# Altium footprint library Analog Devices Data Converters Digital-to-Analog Converters.PcbLib: 229 footprints (part 15 of 15)
Each footprint in its own frame and in the unit in brackets; x right, y up, seen from the top. Pads: shape width x height; smd on the part's side, far side on the other; paste and mask are expansions set on the pad; w line width, h text height; cw(c..) or ccw(c..) is an arc to the next point about the centre after c.
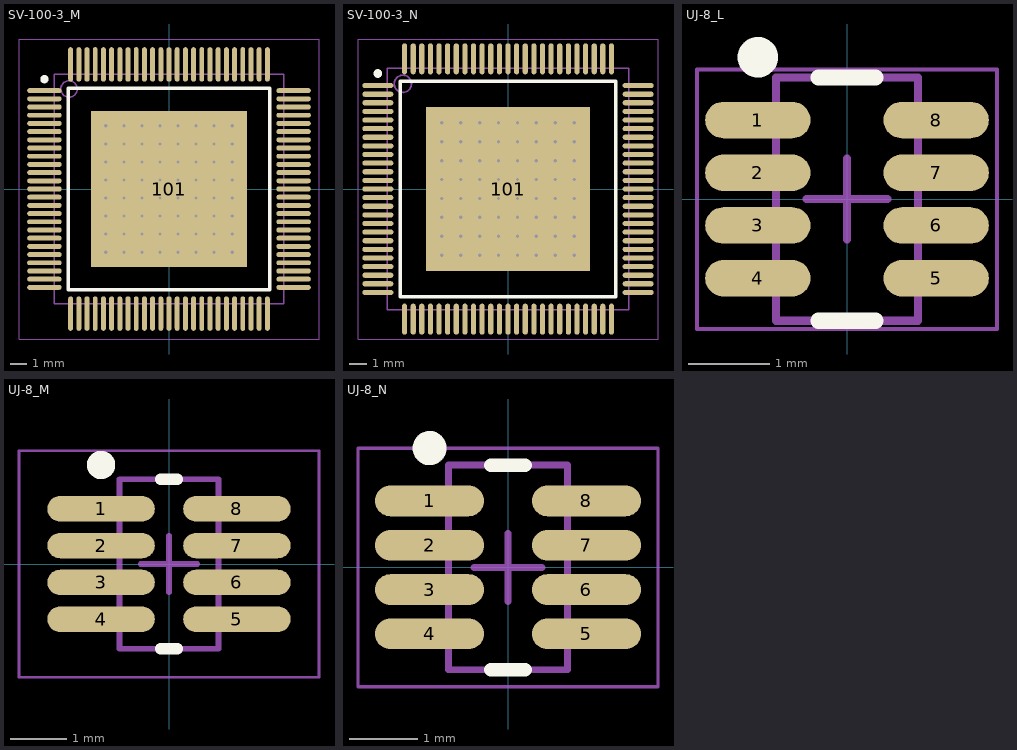
[diagram p14: the footprints below, top view; thin cyan lines are the x and y axes]

## SV-100-3_M [mm] "QFP, 100-Leads, Body 14x14mm, Pitch 0.5mm, Thermal Pad 9.5x9.5mm, IPC Low Density"
height 1.2
pads (101):
  oval 2.1x0.3 smd: 1(-7.6,6) 2(-7.6,5.5) 3(-7.6,5) 4(-7.6,4.5) 5(-7.6,4) 6(-7.6,3.5) 7(-7.6,3) 8(-7.6,2.5) 9(-7.6,2) 10(-7.6,1.5) 11(-7.6,1) 12(-7.6,0.5) 13(-7.6,0) 14(-7.6,-0.5) 15(-7.6,-1) 16(-7.6,-1.5) 17(-7.6,-2) 18(-7.6,-2.5) 19(-7.6,-3) 20(-7.6,-3.5) 21(-7.6,-4) 22(-7.6,-4.5) 23(-7.6,-5) 24(-7.6,-5.5) 25(-7.6,-6) 51(7.6,-6) 52(7.6,-5.5) 53(7.6,-5) 54(7.6,-4.5) 55(7.6,-4) 56(7.6,-3.5) 57(7.6,-3) 58(7.6,-2.5) 59(7.6,-2) 60(7.6,-1.5) 61(7.6,-1) 62(7.6,-0.5) 63(7.6,0) 64(7.6,0.5) 65(7.6,1) 66(7.6,1.5) 67(7.6,2) 68(7.6,2.5) 69(7.6,3) 70(7.6,3.5) 71(7.6,4) 72(7.6,4.5) 73(7.6,5) 74(7.6,5.5) 75(7.6,6)
  oval 0.3x2.1 smd: 26(-6,-7.6) 27(-5.5,-7.6) 28(-5,-7.6) 29(-4.5,-7.6) 30(-4,-7.6) 31(-3.5,-7.6) 32(-3,-7.6) 33(-2.5,-7.6) 34(-2,-7.6) 35(-1.5,-7.6) 36(-1,-7.6) 37(-0.5,-7.6) 38(0,-7.6) 39(0.5,-7.6) 40(1,-7.6) 41(1.5,-7.6) 42(2,-7.6) 43(2.5,-7.6) 44(3,-7.6) 45(3.5,-7.6) 46(4,-7.6) 47(4.5,-7.6) 48(5,-7.6) 49(5.5,-7.6) 50(6,-7.6) 76(6,7.6) 77(5.5,7.6) 78(5,7.6) 79(4.5,7.6) 80(4,7.6) 81(3.5,7.6) 82(3,7.6) 83(2.5,7.6) 84(2,7.6) 85(1.5,7.6) 86(1,7.6) 87(0.5,7.6) 88(0,7.6) 89(-0.5,7.6) 90(-1,7.6) 91(-1.5,7.6) 92(-2,7.6) 93(-2.5,7.6) 94(-3,7.6) 95(-3.5,7.6) 96(-4,7.6) 97(-4.5,7.6) 98(-5,7.6) 99(-5.5,7.6) 100(-6,7.6)
  rect 9.5x9.5 smd: 101(0,0)
via 0.55,0.55 diameter 0.5 hole 0.2
via 0.55,-0.55 diameter 0.5 hole 0.2
via 0.55,1.65 diameter 0.5 hole 0.2
via 0.55,2.75 diameter 0.5 hole 0.2
via 0.55,3.85 diameter 0.5 hole 0.2
via 0.55,-1.65 diameter 0.5 hole 0.2
via 0.55,-2.75 diameter 0.5 hole 0.2
via 0.55,-3.85 diameter 0.5 hole 0.2
via 1.65,-3.85 diameter 0.5 hole 0.2
via 1.65,-2.75 diameter 0.5 hole 0.2
via 1.65,-1.65 diameter 0.5 hole 0.2
via 1.65,-0.55 diameter 0.5 hole 0.2
via 1.65,0.55 diameter 0.5 hole 0.2
via 1.65,1.65 diameter 0.5 hole 0.2
via 1.65,2.75 diameter 0.5 hole 0.2
via 1.65,3.85 diameter 0.5 hole 0.2
via 2.75,3.85 diameter 0.5 hole 0.2
via 2.75,2.75 diameter 0.5 hole 0.2
via 2.75,1.65 diameter 0.5 hole 0.2
via 2.75,0.55 diameter 0.5 hole 0.2
via 2.75,-0.55 diameter 0.5 hole 0.2
via 2.75,-1.65 diameter 0.5 hole 0.2
via 2.75,-2.75 diameter 0.5 hole 0.2
via 2.75,-3.85 diameter 0.5 hole 0.2
via 3.85,-3.85 diameter 0.5 hole 0.2
via 3.85,-2.75 diameter 0.5 hole 0.2
via 3.85,-1.65 diameter 0.5 hole 0.2
via 3.85,-0.55 diameter 0.5 hole 0.2
via 3.85,0.55 diameter 0.5 hole 0.2
via 3.85,1.65 diameter 0.5 hole 0.2
via 3.85,2.75 diameter 0.5 hole 0.2
via 3.85,3.85 diameter 0.5 hole 0.2
via -0.55,3.85 diameter 0.5 hole 0.2
via -0.55,2.75 diameter 0.5 hole 0.2
via -0.55,1.65 diameter 0.5 hole 0.2
via -0.55,0.55 diameter 0.5 hole 0.2
via -0.55,-0.55 diameter 0.5 hole 0.2
via -0.55,-1.65 diameter 0.5 hole 0.2
via -0.55,-2.75 diameter 0.5 hole 0.2
via -0.55,-3.85 diameter 0.5 hole 0.2
via -1.65,-3.85 diameter 0.5 hole 0.2
via -1.65,-2.75 diameter 0.5 hole 0.2
via -1.65,-1.65 diameter 0.5 hole 0.2
via -1.65,-0.55 diameter 0.5 hole 0.2
via -1.65,0.55 diameter 0.5 hole 0.2
via -1.65,1.65 diameter 0.5 hole 0.2
via -1.65,2.75 diameter 0.5 hole 0.2
via -1.65,3.85 diameter 0.5 hole 0.2
via -2.75,3.85 diameter 0.5 hole 0.2
via -2.75,2.75 diameter 0.5 hole 0.2
via -2.75,1.65 diameter 0.5 hole 0.2
via -2.75,0.55 diameter 0.5 hole 0.2
via -2.75,-0.55 diameter 0.5 hole 0.2
via -2.75,-1.65 diameter 0.5 hole 0.2
via -2.75,-2.75 diameter 0.5 hole 0.2
via -2.75,-3.85 diameter 0.5 hole 0.2
via -3.85,-3.85 diameter 0.5 hole 0.2
via -3.85,-2.75 diameter 0.5 hole 0.2
via -3.85,-1.65 diameter 0.5 hole 0.2
via -3.85,3.85 diameter 0.5 hole 0.2
via -3.85,2.75 diameter 0.5 hole 0.2
via -3.85,1.65 diameter 0.5 hole 0.2
via -3.85,-0.55 diameter 0.5 hole 0.2
via -3.85,0.55 diameter 0.5 hole 0.2
Top Overlay:
  circle w0.25: c-7.6,6.7 r0.125
  lines w0.2: -6.15,-6.15 -6.15,6.15 6.15,6.15 6.15,-6.15 -6.15,-6.15
Mechanical 13:
  circle w0.1: c-6.1,6.1 r0.5
  lines w0.1: -7,-7 -7,7 7,7 7,-7 -7,-7
Mechanical 15:
  lines w0.05: -9.15,-9.15 -9.15,9.15 9.15,9.15 9.15,-9.15 -9.15,-9.15
  lines w0.1: -0.5,0 0.5,0 ; 0,-0.5 0,0.5
3D body: height 1.2, standoff 0.05, extent -7,-7 7,7

## SV-100-3_N [mm] "QFP, 100-Leads, Body 14x14mm, Pitch 0.5mm, Thermal Pad 9.5x9.5mm, IPC Medium Density"
height 1.2
pads (101):
  oval 1.8x0.3 smd: 1(-7.55,6) 2(-7.55,5.5) 3(-7.55,5) 4(-7.55,4.5) 5(-7.55,4) 6(-7.55,3.5) 7(-7.55,3) 8(-7.55,2.5) 9(-7.55,2) 10(-7.55,1.5) 11(-7.55,1) 12(-7.55,0.5) 13(-7.55,0) 14(-7.55,-0.5) 15(-7.55,-1) 16(-7.55,-1.5) 17(-7.55,-2) 18(-7.55,-2.5) 19(-7.55,-3) 20(-7.55,-3.5) 21(-7.55,-4) 22(-7.55,-4.5) 23(-7.55,-5) 24(-7.55,-5.5) 25(-7.55,-6) 51(7.55,-6) 52(7.55,-5.5) 53(7.55,-5) 54(7.55,-4.5) 55(7.55,-4) 56(7.55,-3.5) 57(7.55,-3) 58(7.55,-2.5) 59(7.55,-2) 60(7.55,-1.5) 61(7.55,-1) 62(7.55,-0.5) 63(7.55,0) 64(7.55,0.5) 65(7.55,1) 66(7.55,1.5) 67(7.55,2) 68(7.55,2.5) 69(7.55,3) 70(7.55,3.5) 71(7.55,4) 72(7.55,4.5) 73(7.55,5) 74(7.55,5.5) 75(7.55,6)
  oval 0.3x1.8 smd: 26(-6,-7.55) 27(-5.5,-7.55) 28(-5,-7.55) 29(-4.5,-7.55) 30(-4,-7.55) 31(-3.5,-7.55) 32(-3,-7.55) 33(-2.5,-7.55) 34(-2,-7.55) 35(-1.5,-7.55) 36(-1,-7.55) 37(-0.5,-7.55) 38(0,-7.55) 39(0.5,-7.55) 40(1,-7.55) 41(1.5,-7.55) 42(2,-7.55) 43(2.5,-7.55) 44(3,-7.55) 45(3.5,-7.55) 46(4,-7.55) 47(4.5,-7.55) 48(5,-7.55) 49(5.5,-7.55) 50(6,-7.55) 76(6,7.55) 77(5.5,7.55) 78(5,7.55) 79(4.5,7.55) 80(4,7.55) 81(3.5,7.55) 82(3,7.55) 83(2.5,7.55) 84(2,7.55) 85(1.5,7.55) 86(1,7.55) 87(0.5,7.55) 88(0,7.55) 89(-0.5,7.55) 90(-1,7.55) 91(-1.5,7.55) 92(-2,7.55) 93(-2.5,7.55) 94(-3,7.55) 95(-3.5,7.55) 96(-4,7.55) 97(-4.5,7.55) 98(-5,7.55) 99(-5.5,7.55) 100(-6,7.55)
  rect 9.5x9.5 smd: 101(0,0)
via 0.55,0.55 diameter 0.5 hole 0.2
via 0.55,-0.55 diameter 0.5 hole 0.2
via 0.55,1.65 diameter 0.5 hole 0.2
via 0.55,2.75 diameter 0.5 hole 0.2
via 0.55,3.85 diameter 0.5 hole 0.2
via 0.55,-1.65 diameter 0.5 hole 0.2
via 0.55,-2.75 diameter 0.5 hole 0.2
via 0.55,-3.85 diameter 0.5 hole 0.2
via 1.65,-3.85 diameter 0.5 hole 0.2
via 1.65,-2.75 diameter 0.5 hole 0.2
via 1.65,-1.65 diameter 0.5 hole 0.2
via 1.65,-0.55 diameter 0.5 hole 0.2
via 1.65,0.55 diameter 0.5 hole 0.2
via 1.65,1.65 diameter 0.5 hole 0.2
via 1.65,2.75 diameter 0.5 hole 0.2
via 1.65,3.85 diameter 0.5 hole 0.2
via 2.75,3.85 diameter 0.5 hole 0.2
via 2.75,2.75 diameter 0.5 hole 0.2
via 2.75,1.65 diameter 0.5 hole 0.2
via 2.75,0.55 diameter 0.5 hole 0.2
via 2.75,-0.55 diameter 0.5 hole 0.2
via 2.75,-1.65 diameter 0.5 hole 0.2
via 2.75,-2.75 diameter 0.5 hole 0.2
via 2.75,-3.85 diameter 0.5 hole 0.2
via 3.85,-3.85 diameter 0.5 hole 0.2
via 3.85,-2.75 diameter 0.5 hole 0.2
via 3.85,-1.65 diameter 0.5 hole 0.2
via 3.85,-0.55 diameter 0.5 hole 0.2
via 3.85,0.55 diameter 0.5 hole 0.2
via 3.85,1.65 diameter 0.5 hole 0.2
via 3.85,2.75 diameter 0.5 hole 0.2
via 3.85,3.85 diameter 0.5 hole 0.2
via -0.55,3.85 diameter 0.5 hole 0.2
via -0.55,2.75 diameter 0.5 hole 0.2
via -0.55,1.65 diameter 0.5 hole 0.2
via -0.55,0.55 diameter 0.5 hole 0.2
via -0.55,-0.55 diameter 0.5 hole 0.2
via -0.55,-1.65 diameter 0.5 hole 0.2
via -0.55,-2.75 diameter 0.5 hole 0.2
via -0.55,-3.85 diameter 0.5 hole 0.2
via -1.65,-3.85 diameter 0.5 hole 0.2
via -1.65,-2.75 diameter 0.5 hole 0.2
via -1.65,-1.65 diameter 0.5 hole 0.2
via -1.65,-0.55 diameter 0.5 hole 0.2
via -1.65,0.55 diameter 0.5 hole 0.2
via -1.65,1.65 diameter 0.5 hole 0.2
via -1.65,2.75 diameter 0.5 hole 0.2
via -1.65,3.85 diameter 0.5 hole 0.2
via -2.75,3.85 diameter 0.5 hole 0.2
via -2.75,2.75 diameter 0.5 hole 0.2
via -2.75,1.65 diameter 0.5 hole 0.2
via -2.75,0.55 diameter 0.5 hole 0.2
via -2.75,-0.55 diameter 0.5 hole 0.2
via -2.75,-1.65 diameter 0.5 hole 0.2
via -2.75,-2.75 diameter 0.5 hole 0.2
via -2.75,-3.85 diameter 0.5 hole 0.2
via -3.85,-3.85 diameter 0.5 hole 0.2
via -3.85,-2.75 diameter 0.5 hole 0.2
via -3.85,-1.65 diameter 0.5 hole 0.2
via -3.85,3.85 diameter 0.5 hole 0.2
via -3.85,2.75 diameter 0.5 hole 0.2
via -3.85,1.65 diameter 0.5 hole 0.2
via -3.85,-0.55 diameter 0.5 hole 0.2
via -3.85,0.55 diameter 0.5 hole 0.2
Top Overlay:
  circle w0.25: c-7.55,6.7 r0.125
  lines w0.2: -6.25,-6.25 6.25,-6.25 6.25,6.25 -6.25,6.25 -6.25,-6.25
Mechanical 13:
  circle w0.1: c-6.1,6.1 r0.5
  lines w0.1: -7,-7 7,-7 7,7 -7,7 -7,-7
Mechanical 15:
  lines w0.05: -8.7,-8.7 8.7,-8.7 8.7,8.7 -8.7,8.7 -8.7,-8.7
  lines w0.1: -0.5,0 0.5,0 ; 0,-0.5 0,0.5
3D body: height 1.2, standoff 0.05, extent -7,-7 7,7

## UJ-8_L [mm] "SOP, 8-Leads, Body 2.9x1.6mm, Pitch 0.65mm, IPC High Density"
height 1
pads (8):
  oval 1.3x0.45 smd: 1(-1.1,0.975) 2(-1.1,0.325) 3(-1.1,-0.325) 4(-1.1,-0.975) 5(1.1,-0.975) 6(1.1,-0.325) 7(1.1,0.325) 8(1.1,0.975)
Top Overlay:
  circle w0.25: c-1.1,1.75 r0.125
  lines w0.2: -0.35,-1.5 0.35,-1.5 ; -0.35,1.5 0.35,1.5
Mechanical 13:
  lines w0.1: -0.875,-1.5 0.875,-1.5 0.875,1.5 -0.875,1.5 -0.875,-1.5
Mechanical 15:
  lines w0.05: -1.85,-1.6 1.85,-1.6 1.85,1.6 -1.85,1.6 -1.85,-1.6
  lines w0.1: -0.5,0 0.5,0 ; 0,-0.5 0,0.5
3D body: height 1, standoff 0, extent -0.875,-1.5 0.875,1.5

## UJ-8_M [mm] "SOP, 8-Leads, Body 2.9x1.6mm, Pitch 0.65mm, IPC Low Density"
height 1
pads (8):
  oval 1.9x0.45 smd: 1(-1.2,0.975) 2(-1.2,0.325) 3(-1.2,-0.325) 4(-1.2,-0.975) 5(1.2,-0.975) 6(1.2,-0.325) 7(1.2,0.325) 8(1.2,0.975)
Top Overlay:
  circle w0.25: c-1.2,1.75 r0.125
  lines w0.2: -0.15,-1.5 0.15,-1.5 ; -0.15,1.5 0.15,1.5
Mechanical 13:
  lines w0.1: -0.875,-1.5 0.875,-1.5 0.875,1.5 -0.875,1.5 -0.875,-1.5
Mechanical 15:
  lines w0.05: -2.65,-2 2.65,-2 2.65,2 -2.65,2 -2.65,-2
  lines w0.1: -0.5,0 0.5,0 ; 0,-0.5 0,0.5
3D body: height 1, standoff 0, extent -0.875,-1.5 0.875,1.5

## UJ-8_N [mm] "SOP, 8-Leads, Body 2.9x1.6mm, Pitch 0.65mm, IPC Medium Density"
height 1
pads (8):
  oval 1.6x0.45 smd: 1(-1.15,0.975) 2(-1.15,0.325) 3(-1.15,-0.325) 4(-1.15,-0.975) 5(1.15,-0.975) 6(1.15,-0.325) 7(1.15,0.325) 8(1.15,0.975)
Top Overlay:
  circle w0.25: c-1.15,1.75 r0.125
  lines w0.2: -0.25,-1.5 0.25,-1.5 ; -0.25,1.5 0.25,1.5
Mechanical 13:
  lines w0.1: -0.875,-1.5 -0.875,1.5 0.875,1.5 0.875,-1.5 -0.875,-1.5
Mechanical 15:
  lines w0.05: -2.2,-1.75 -2.2,1.75 2.2,1.75 2.2,-1.75 -2.2,-1.75
  lines w0.1: -0.5,0 0.5,0 ; 0,-0.5 0,0.5
3D body: height 1, standoff 0, extent -0.875,-1.5 0.875,1.5